# Altium footprint library lib-con.PcbLib: 51 footprints (part 4 of 4)
Each footprint in its own frame and in the unit in brackets; x right, y up, seen from the top. Pads: shape width x height; smd on the part's side, far side on the other; paste and mask are expansions set on the pad; w line width, h text height; cw(c..) or ccw(c..) is an arc to the next point about the centre after c.
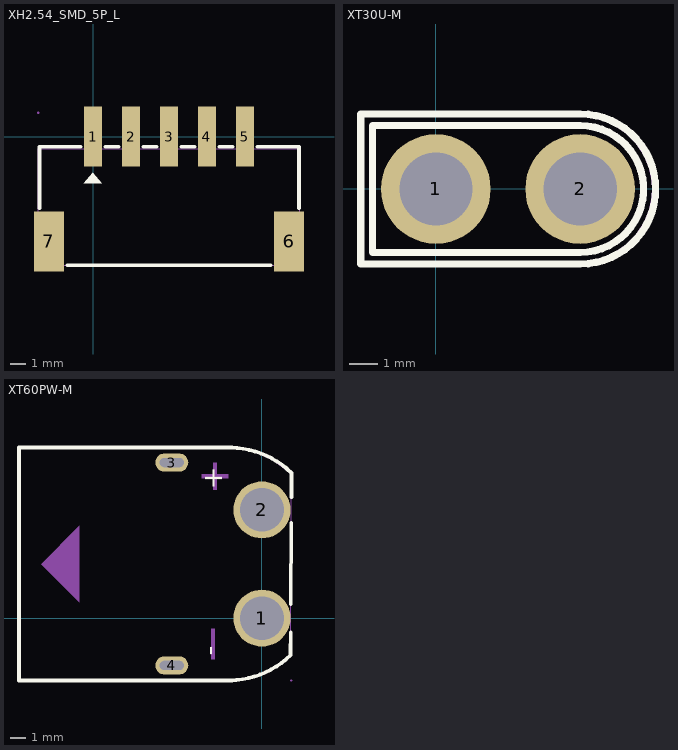
[diagram p3: the footprints below, top view; thin cyan lines are the x and y axes]

## XH2.54_SMD_5P_L [mm]
pads (7):
  rect 1.2x4 smd mask+0.051: 1(0,0) 2(2.54,0) 3(5.08,0) 4(7.62,0) 5(10.16,0)
  rect 2x4 smd mask+0.051: 6(13.11,-7) 7(-2.95,-7)
Top Overlay:
  region: -0.02,-2.4 -0.62,-3.1 0.58,-3.1
  lines w0.254: -3.58,-4.769 -3.58,-0.676 -0.831,-0.676 ; -1.72,-8.6 11.878,-8.6 ; 0.831,-0.676 1.719,-0.676 ; 3.381,-0.676 4.259,-0.676 ; 5.921,-0.676 6.799,-0.676 ; 8.461,-0.676 9.339,-0.676 ; 11.001,-0.676 13.78,-0.676 13.78,-4.769
Mechanical 6:
  circle w0.4: c-0.02,0.1 r0.2
Mechanical 15:
  region: -3.61,1.6 -3.61,1.625 -3.645,1.66 -3.695,1.66 -3.73,1.625 -3.73,1.6 -3.73,1.575 -3.695,1.54 -3.645,1.54 -3.61,1.575
  region: -0.32,1.6 0.32,1.6 0.32,-0.85 -0.32,-0.85
  region: 2.23,1.6 2.87,1.6 2.87,-0.85 2.23,-0.85
  region: 4.77,1.6 5.41,1.6 5.41,-0.85 4.77,-0.85
  region: 7.31,1.6 7.95,1.6 7.95,-0.85 7.31,-0.85
  region: 9.85,1.6 10.49,1.6 10.49,-0.85 9.85,-0.85
  region: -3.27,-5.15 -2.63,-5.15 -2.63,-8.6 -3.27,-8.6
  region: 12.79,-5.15 13.43,-5.15 13.43,-8.6 12.79,-8.6
  lines w0.051: -3.67,-8.6 13.83,-8.6 13.83,-0.8 -3.67,-0.8 -3.67,-8.6

## XT30U-M [mm] "AMASS(艾迈斯)轻量版锂电池插头公头 XT30U-M"
pads (2):
  round 3.8 hole 2.54 paste+0 mask+0.05: 1(0,0) 2(5,0)
Top Overlay:
  lines w0.254: 5.001,-2.2 ccw(c5,0) 5,2.2 ; 5.001,-2.2 4.5,-2.2 -2.2,-2.2 -2.2,2.2 4.5,2.2 5,2.2 ; 5.001,-2.2 5.001,-2.2 ; 5,2.2 5,2.2 ; -2.6,-2.6 -2.6,2.6 5.014,2.6 cw(c5.014,0) 5.014,-2.6 -2.6,-2.6
Mechanical 6:
  region: 7.5,0 7.488,0.245 7.392,0.726 7.205,1.178 6.932,1.586 6.586,1.933 6.178,2.205 5.725,2.392 5.245,2.488 5,2.5 5,2.7 5.177,2.7 5.528,2.654 5.87,2.562 6.197,2.427 6.503,2.25 6.784,2.034 7.034,1.784 7.25,1.503 7.427,1.197 7.562,0.87 7.654,0.528 7.7,0.177 7.7,0
  region: 5,-2.5 5.245,-2.488 5.725,-2.392 6.178,-2.205 6.586,-1.933 6.932,-1.586 7.205,-1.178 7.392,-0.726 7.488,-0.245 7.5,0 7.7,0 7.7,-0.177 7.654,-0.528 7.562,-0.87 7.426,-1.197 7.25,-1.503 7.034,-1.784 6.784,-2.034 6.503,-2.25 6.196,-2.427 5.869,-2.562 5.528,-2.654 5.177,-2.7 5,-2.7
  region: 5,2.7 -2.6,2.7 -2.7,2.6 -2.7,-2.6 -2.6,-2.7 5,-2.7 5,-2.5 -2.5,-2.5 -2.5,2.5 5,2.5
Mechanical 15:
  region: -2.54,-2.6 -2.54,-2.575 -2.575,-2.54 -2.625,-2.54 -2.66,-2.575 -2.66,-2.6 -2.66,-2.625 -2.625,-2.66 -2.575,-2.66 -2.54,-2.625
  region: 6,0 6,0.132 5.932,0.386 5.8,0.614 5.614,0.8 5.386,0.932 5.132,1 4.868,1 4.614,0.932 4.386,0.8 4.2,0.614 4.068,0.386 4,0.132 4,0 4,-0.132 4.068,-0.386 4.2,-0.614 4.386,-0.8 4.614,-0.932 4.868,-1 5.132,-1 5.386,-0.932 5.614,-0.8 5.8,-0.614 5.932,-0.386 6,-0.132
  region: 1,0 1,0.132 0.932,0.386 0.8,0.614 0.614,0.8 0.386,0.932 0.132,1 -0.132,1 -0.386,0.932 -0.614,0.8 -0.8,0.614 -0.932,0.386 -1,0.132 -1,0 -1,-0.132 -0.932,-0.386 -0.8,-0.614 -0.614,-0.8 -0.386,-0.932 -0.132,-1 0.132,-1 0.386,-0.932 0.614,-0.8 0.8,-0.614 0.932,-0.386 1,-0.132
  lines w0.051: -2.6,-2.6 -2.6,2.52 cw(c-2.58,2.52) -2.58,2.54 5.014,2.6 cw(c5.014,0) 7.614,0 cw(c5.014,0) 5.014,-2.6 -2.6,-2.6
3D body "aaa_f.step": height 10.8, standoff -2.9, extent -2.656,-2.667 7.544,2.534

## XT60PW-M [mm]
pads (4):
  round 3.8 hole 2.9 paste+0 mask+0.05: 1(0,0) 2(0,7.2)
  oval 2.2x1.2 hole 0.6 slot 1.6 at 0 deg paste+0 mask+0.05: 3(-6,10.35) 4(-6,-3.15)
Top Overlay:
  lines w0.254: -2.111,-4.147 ccw(c-2.254,1.851) 1.917,-2.462 ; -2.063,11.347 cw(c-2.206,5.348) 1.965,9.662 1.957,8.041 ; -2,-4.15 -16.165,-4.15 -16.165,11.35 -2,11.35 ; 1.902,-2.394 1.909,-0.944 ; 1.919,0.923 1.948,6.338
  text "-" at -2.89,-2.496 h1.33
  text "+" at -2.636,8.553 h1.33
Mechanical 6:
  region: -12.144,6.14 -12.144,1.06 -14.684,3.6
  region: -3.254,10.331 -3,10.331 -3,9.569 -2.238,9.569 -2.238,9.315 -3,9.315 -3,8.553 -3.254,8.553 -3.254,9.315 -4.016,9.315 -4.016,9.569 -3.254,9.569
  region: -3.381,-0.718 -3.127,-0.718 -3.127,-2.75 -3.381,-2.75
Mechanical 15:
  region: 2.013,-4.147 2.012,-4.123 1.977,-4.09 1.929,-4.09 1.894,-4.123 1.893,-4.147 1.894,-4.171 1.929,-4.205 1.977,-4.205 2.012,-4.171 2.013,-4.147
  region: 1,7.2 1,7.331 0.932,7.586 0.8,7.814 0.614,8 0.386,8.132 0.132,8.2 -0.132,8.2 -0.386,8.132 -0.614,8 -0.8,7.814 -0.932,7.586 -1,7.331 -1,7.2 -1,7.068 -0.932,6.814 -0.8,6.586 -0.614,6.399 -0.386,6.268 -0.132,6.2 0.132,6.2 0.386,6.268 0.614,6.399 0.8,6.586 0.932,6.814 1,7.068 1,7.2
  region: 1,0 1,0.132 0.932,0.386 0.8,0.614 0.614,0.8 0.386,0.932 0.132,1 -0.132,1 -0.386,0.932 -0.614,0.8 -0.8,0.614 -0.932,0.386 -1,0.132 -1,0 -1,-0.132 -0.932,-0.386 -0.8,-0.614 -0.614,-0.8 -0.386,-0.932 -0.132,-1 0.132,-1 0.386,-0.932 0.614,-0.8 0.8,-0.614 0.932,-0.386 1,-0.132 1,0
  region: -5.4,10.55 -5.4,10.15 -6.6,10.15 -6.6,10.55
  region: -5.4,-2.95 -5.4,-3.35 -6.6,-3.35 -6.6,-2.95
  lines w0.051: -16.165,-4.147 -1.857,-4.147 -0.841,-3.893 0.175,-3.639 0.937,-3.258 1.699,-2.623 1.902,-2.394 1.953,9.569 1.826,9.696 0.81,10.458 -0.206,10.966 -1.222,11.22 -1.984,11.347 -16.165,11.347 -16.165,-4.147